# Altium schematic symbol library OBD2.SchLib: 1 symbol
Pins are listed as number, name and electrical type; pins without a type are passive.

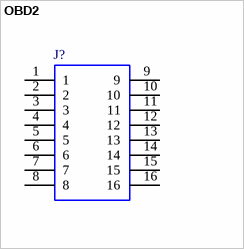
[diagram p0: symbol OBD2]

## OBD2
designator J?
r/a 4mm pitch connector; Manufacturer_Name: Comtech; Geometry.Height: 18mm; Manufacturer_Part_Number: OBD2; Mouser Part Number: *; Mouser Price/Stock: *; Arrow Part Number: *; Arrow Price/Stock: *; Mouser Testing Part Number: *; Mouser Testing Price/Stock: *; Datasheet Link: https://www.obd2-shop.eu/files/obd_pcb-th.pdf
footprint OBD2
pins: 1, 2, 3, 4, 5, 6, 7, 8, 9, 10, 11, 12, 13, 14, 15, 16